# Altium schematic symbol library ESC.SchLib: 73 symbols
Pins are listed as number, name and electrical type; pins without a type are passive.

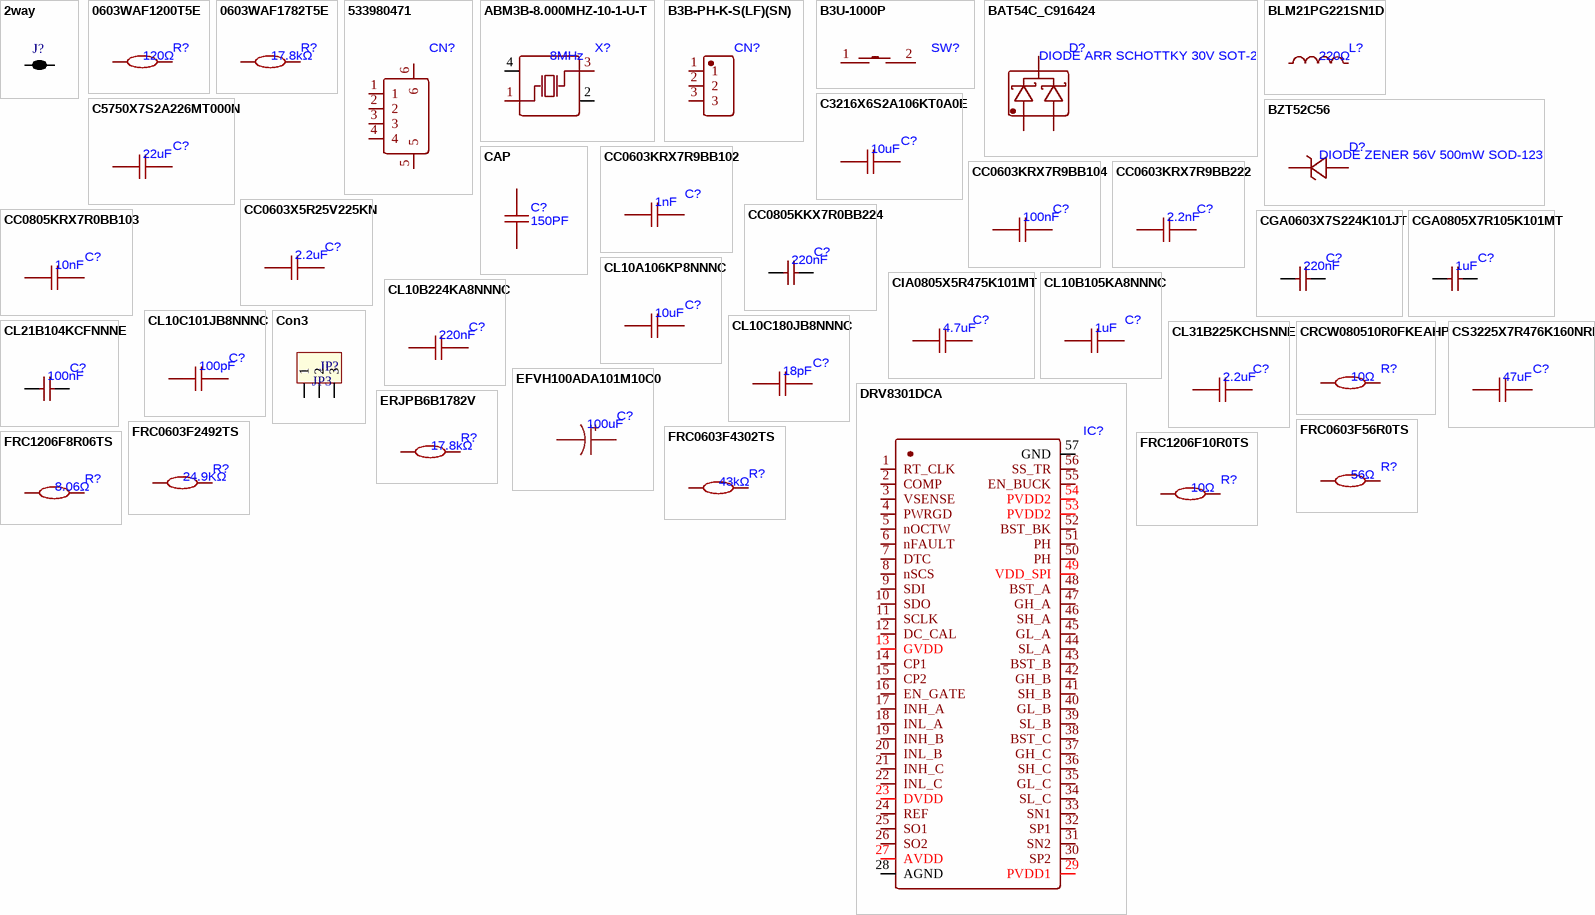
[diagram p0: symbols 2way to FRC1206F10R0TS]

## 2way
designator J?, comment 2 way net tie junction  (value not drawn)  (net tie, no BOM)
ComponentLink1URL: http://www.edatools.cz/addons; ComponentLink1Description: Source; FootprintNote: LP=12mil, MP=40mil, HP=120mil
footprint 2way_LP (2 way low power net tie junction)
footprint 2way_MP (2 way medium power net tie junction)
footprint 2way_HP (2 way high power power net tie junction)
footprint NetTie_2mm (Net tie, 2mm round)
pins: 1, 2

## 0603WAF1200T5E
designator R?, comment 120Ω
120Ω ±1% 100mW 0603 Thick Film Resistor
footprint R0603
pins: 1, 2

## 0603WAF1782T5E
designator R?, comment 17.8kΩ
17.8kΩ ±1% 100mW 0603 Thick Film Resistor
footprint R0603
pins: 1, 2

## 533980471
designator CN?
4P PicoBlade(MX 1.25) 1x4P Tin -40℃~+105℃ White 1.25mm 125V 4 1A 1 Surface Mount,Vertical SMD,P=1.25mm Headers, Male Pins RoHS
footprint CONN-SMD_4P-P1.25_XUNPU_WAFER-GH1.25-4PWB
pins: 1, 2, 3, 4, 5, 6

## ABM3B-8.000MHZ-10-1-U-T
designator X?, comment 8MHz
Crystal 8MHz ±10ppm 10pF 200Ω SMD5032-4P
footprint OSC-SMD_4P-L5.0-W3.2-BL
pins: 1 OSC1, 2 GND, 3 OSC2, 4 GND

## B3B-PH-K-S(LF)(SN)
designator CN?, comment CONN HEADER TH 3POS 2mm  (value not drawn)
Connector Header 3 position 2mm Pitch 2A Through Hole -25℃~+85℃
footprint CONN-TH_B3B-PH-K-S
pins: 1, 2, 3

## B3U-1000P
designator SW?
12V 2.5mm Round Button 3mm SPST 50mA SMD,3x2.5mm Tactile Switches ROHS
footprint KEY-SMD_B3U-1000PM
pins: 1, 2

## BAT54C_C916424
designator D?, comment DIODE ARR SCHOTTKY 30V SOT-23
600mA 30V 1 Pair Common Cathode 1V@100mA 200mA SOT-23 Single Diodes RoHS
footprint SOT-23-3_L2.9-W1.3-P1.90-LS2.4-BR
pins: 1, 2, 3

## BLM21PG221SN1D
designator L?, comment 220Ω
220Ω@100MHz 1 Line Ferrite Bead 0805 2A 45mΩ
footprint C0805
pins: 1, 2

## BZT52C56
designator D?, comment DIODE ZENER 56V 500mW SOD-123W
Zener Diode Independent 56V 500mW Surface Mount SOD-123W
footprint SOD-123_L2.8-W1.8-LS3.7-RD
pins: 1 K, 2 A

## C3216X6S2A106KT0A0E
designator C?, comment 10uF
10uF X6S ±10% 100V 1206 Ceramic Capacitors RoHS
footprint C2220
footprint C1206 (1206)
pins: 1, 2

## C5750X7S2A226MT000N
designator C?, comment 22uF
22uF ±20% 100V Ceramic Capacitor X7S 2220
footprint C2220
pins: 1, 2

## CAP
designator C?, comment 150PF
50V 150pF NP0 ±5% 0603 Ceramic Capacitors ROHS
footprint C0603
pins: 1, 2

## CC0603KRX7R9BB102
designator C?, comment 1nF
1nF ±10% 50V Ceramic Capacitor X7R 0603
footprint C0603 (cap 0603)
pins: 1, 2

## CC0603KRX7R9BB104
designator C?, comment 100nF
100nF ±10% 50V Ceramic Capacitor X7R 0603
footprint C0603 (cap 0603)
pins: 1, 2

## CC0603KRX7R9BB222
designator C?, comment 2.2nF
2.2nF ±10% 50V Ceramic Capacitor X7R 0603
footprint C0603 (cap 0603)
pins: 1, 2

## CC0603X5R25V225KN
designator C?, comment 2.2uF
2.2uF X5R ±10% 25V 0603 Ceramic Capacitors RoHS
footprint C0603 (cap 0603)
pins: 1, 2

## CC0805KKX7R0BB224
designator C?, comment 220nF
220nF ±10% 100V Ceramic Capacitor X7R 0805
footprint C0805
pins: 1, 2

## CC0805KRX7R0BB103
designator C?, comment 10nF
10nF ±10% 100V Ceramic Capacitor X7R 0805
footprint C0805
pins: 1, 2

## CGA0603X7S224K101JT
designator C?, comment 220nF
220nF ±10% 100V Ceramic Capacitor X7S 0603
footprint C0603 (cap 0603)
pins: 1, 2

## CGA0805X7R105K101MT
designator C?, comment 1uF
1uF ±10% 100V Ceramic Capacitor X7R 0805
footprint C0805
pins: 1, 2

## CIA0805X5R475K101MT
designator C?, comment 4.7uF
4.7uF ±10% 100V Ceramic Capacitor X5R 0805
footprint C0805
pins: 1, 2

## CL10A106KP8NNNC
designator C?, comment 10uF
10uF ±10% 10V Ceramic Capacitor X5R 0603
footprint C0603 (cap 0603)
pins: 1, 2

## CL10B105KA8NNNC
designator C?, comment 1uF
1uF ±10% 25V Ceramic Capacitor X7R 0603
footprint C0603 (cap 0603)
pins: 1, 2

## CL10B224KA8NNNC
designator C?, comment 220nF
220nF ±10% 25V Ceramic Capacitor X7R 0603
footprint C0603 (cap 0603)
pins: 1, 2

## CL10C101JB8NNNC
designator C?, comment 100pF
100pF ±5% 50V Ceramic Capacitor C0G 0603
footprint C0603 (cap 0603)
pins: 1, 2

## CL10C180JB8NNNC
designator C?, comment 18pF
18pF ±5% 50V Ceramic Capacitor C0G 0603
footprint C0603 (cap 0603)
pins: 1, 2

## CL21B104KCFNNNE
designator C?, comment 100nF
100nF ±10% 100V Ceramic Capacitor X7R 0805
footprint C0805
pins: 1, 2

## CL31B225KCHSNNE
designator C?, comment 2.2uF
2.2uF ±10% 100V Ceramic Capacitor X7R 1206
footprint C2220
footprint C1206 (1206)
pins: 1, 2

## Con3
designator JP?, comment JP3
Connector 3; Value: Connector 3
footprint CON3 (CON 3)
pins: 1, 2, 3

## CRCW080510R0FKEAHP
designator R?, comment 10Ω
10Ω 500mW Thick Film Resistor ±100ppm/℃ ±1% 0805 Chip Resistor - Surface Mount RoHS
footprint R0603
footprint R1206 (package 1206)
footprint R0805 (0805)
pins: 1, 2

## CS3225X7R476K160NRL
designator C?, comment 47uF
47uF ±10% 16V Ceramic Capacitor X7R 1210
footprint C1210 (1210)
pins: 1, 2

## DRV8301DCA
designator IC?, comment DRV8301 Three-Phase Gate Driver With Dual Current Shunt Amplifiers and Buck Regulator  (value not drawn)
MOSFET 1.7A 2.3A HTSSOP-56-EP-6mm Motor Drivers, Controllers RoHS
footprint HTSSOP-56_L14.0-W6.0-P0.50-LS8.1-BL-EP
pins: 1 RT_CLK, 2 COMP, 3 VSENSE, 4 PWRGD, 5 nOCTW, 6 nFAULT, 7 DTC, 8 nSCS, 9 SDI, 10 SDO, 11 SCLK, 12 DC_CAL, 13 GVDD, 14 CP1, 15 CP2, 16 EN_GATE, 17 INH_A, 18 INL_A, 19 INH_B, 20 INL_B, 21 INH_C, 22 INL_C, 23 DVDD, 24 REF, 25 SO1, 26 SO2, 27 AVDD, 28 AGND, 29 PVDD1, 30 SP2, 31 SN2, 32 SP1, 33 SN1, 34 SL_C, 35 GL_C, 36 SH_C, 37 GH_C, 38 BST_C, 39 SL_B, 40 GL_B, 41 SH_B, 42 GH_B, 43 BST_B, 44 SL_A, 45 GL_A, 46 SH_A, 47 GH_A, 48 BST_A, 49 VDD_SPI, 50 PH, 51 PH, 52 BST_BK, 53 PVDD2, 54 PVDD2, 55 EN_BUCK, 56 SS_TR, 57 GND

## EFVH100ADA101M10C0
designator C?, comment 100uF
100uF ±20% 100V Aluminum Electrolytic Capacitors
footprint CAP-SMD_BD10.0-L10.3-W10.3-FD (SMD,D10xL12.5mm)
pins: 1, 2

## ERJPB6B1782V
designator R?, comment 17.8kΩ
250mW 17.8kΩ Thick Film Resistor ±50ppm/℃ ±0.1% 0805 Chip Resistor - Surface Mount RoHS
footprint R0603
footprint R0805 (0805)
pins: 1, 2

## FRC0603F56R0TS
designator R?, comment 56Ω
56Ω ±1% 100mW 0603 Thick Film Resistor
footprint R0603
pins: 1, 2

## FRC0603F2492TS
designator R?, comment 24.9KΩ
24.9kΩ ±1% 100mW 0603 Thick Film Resistor
footprint R0603
pins: 1, 2

## FRC0603F4302TS
designator R?, comment 43kΩ
43kΩ ±1% 100mW 0603 Thick Film Resistor
footprint R0603
pins: 1, 2

## FRC1206F8R06TS
designator R?, comment 8.06Ω
8.06Ω ±1% 250mW 1206 Thick Film Resistor
footprint R0603
footprint R1206 (package 1206)
pins: 1, 2

## FRC1206F10R0TS
designator R?, comment 10Ω
10Ω ±1% 250mW 1206 Thick Film Resistor
footprint R0603
footprint R1206 (package 1206)
pins: 1, 2

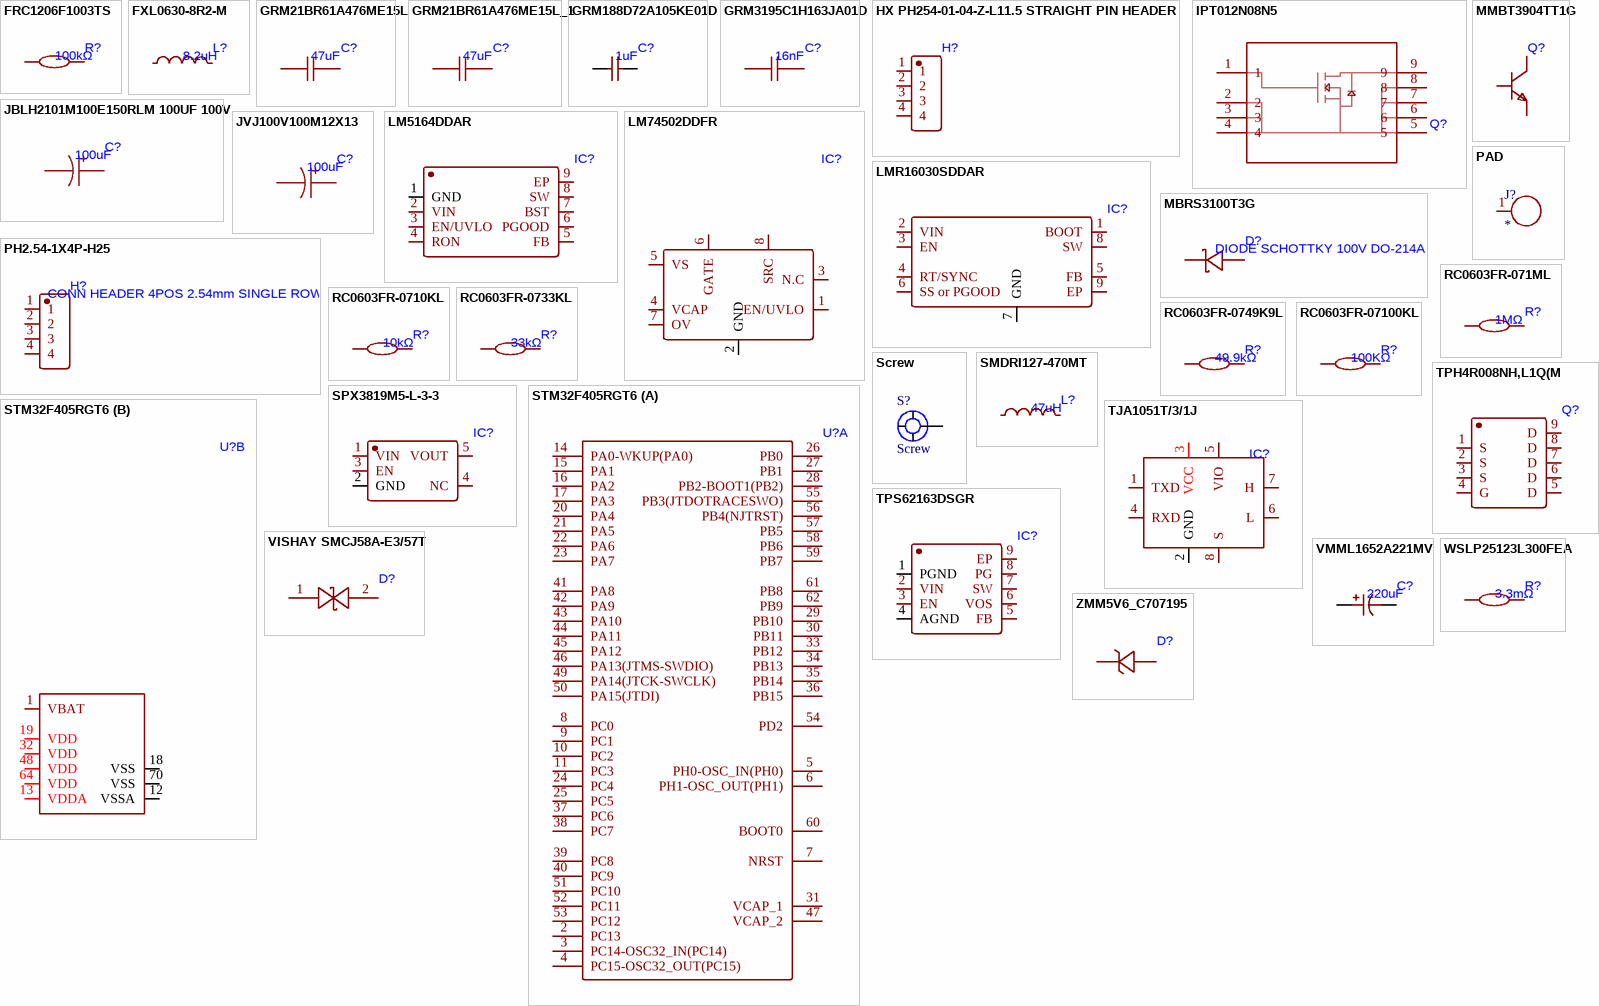
[diagram p1: symbols FRC1206F1003TS to ZMM5V6_C707195]

## FRC1206F1003TS
designator R?, comment 100kΩ
100kΩ ±1% 250mW 1206 Thick Film Resistor
footprint R0603
footprint R1206 (package 1206)
pins: 1, 2

## FXL0630-8R2-M
designator L?, comment 8.2uH
5A 8.2uH 6A 60mΩ Molded Inductor ±20% SMD,7x6.6mm Fixed Inductors RoHS
footprint IND-SMD_L7.0-W6.6_FXL0630 (SMD,7x6.6mm)
pins: 1, 2

## GRM21BR61A476ME15L
designator C?, comment 47uF
47uF ±20% 10V Ceramic Capacitor X5R 0805
footprint C0805
pins: 1, 2

## GRM21BR61A476ME15L_1
designator C?, comment 47uF
47uF ±20% 10V Ceramic Capacitor X5R 0805
footprint C0603 (cap 0603)
pins: 1, 2

## GRM188D72A105KE01D
designator C?, comment 1uF
1uF ±10% 100V Ceramic Capacitor X7T 0603
footprint C0603 (cap 0603)
pins: 1, 2

## GRM3195C1H163JA01D
designator C?, comment 16nF
16nF ±5% 50V Ceramic Capacitor C0G 1206
footprint C2220
footprint C1206 (1206)
pins: 1, 2

## HX PH254-01-04-Z-L11.5 STRAIGHT PIN HEADER
designator H?, comment 4PIN  (value not drawn)
Pin Header 1 2.5mm 6mm -40℃~+105℃ 3mm 4P 2.54mm 3A 1kV 1x4P Through Hole,P=2.54mm Headers, Male Pins RoHS
footprint HDR-TH_4P-HX-PH254-01-04-Z-L11.5
pins: 1, 2, 3, 4

## IPT012N08N5
designator Q?, comment MOSFET N-CH 80V HSOF-8  (value not drawn)
N-Channel 80V 375W HSOF-8
footprint TOLL-8_L10.4-W9.9-P1.20-LS11.7-BL_2
pins: 1, 2, 3, 4, 5, 6, 7, 8, 9

## JBLH2101M100E150RLM 100UF 100V
designator C?, comment 100uF
100uF ±20% 100V Through Hole,D10xL15mm 2000hrs@105℃
footprint CAP-TH_BD10.0-P5.00-D0.6-FD (Through Hole,D10xL15mm)
pins: 1, 2

## JVJ100V100M12X13
designator C?, comment 100uF
100uF ±20% 100V Aluminum Electrolytic Capacitors 2000hrs@105℃
footprint CAP-SMD_L3.5-W2.8-R-RD
footprint CAP-SMD_BD12.5-L13.0-W13.0-LS13.7-FD (SMD,D12.5xL13.5mm)
pins: 1, 2

## LM5164DDAR
designator IC?, comment 100-V Input, 1-A Synchronous Buck DC/DC Converter  (value not drawn)
1MHz Buck Adjustable 1A SO-8-EP Voltage Regulators - DC DC Switching Regulators RoHS
footprint SO-8_L4.9-W3.9-P1.27-LS6.0-BL-EP
pins: 1 GND, 2 VIN, 3 EN/UVLO, 4 RON, 5 FB, 6 PGOOD, 7 BST, 8 SW, 9 EP

## LM74502DDFR
designator IC?, comment TSOT-23-8 OR Controllers, Ideal Diodes RoHS  (value not drawn)
Low-IQ high-side switch controller with reverse polarity protection and overvoltage protection functions
footprint SOT-23-8_L2.9-W1.6-P0.65-LS2.8-BL
pins: 1 EN/UVLO, 2 GND, 3 N.C, 4 VCAP, 5 VS, 6 GATE, 7 OV, 8 SRC

## LMR16030SDDAR
designator IC?, comment 60V 3A Step-Down Converter  (value not drawn)
2.5MHz Buck Adjustable 800mV~50V 3A 4.3V~60V SO-8-EP Voltage Regulators - DC DC Switching Regulators RoHS
footprint SOIC-8_L4.9-W3.9-P1.27-LS6.0-BL-EP2.3
pins: 1 BOOT, 2 VIN, 3 EN, 4 RT/SYNC, 5 FB, 6 SS or PGOOD, 7 GND, 8 SW, 9 EP

## MBRS3100T3G
designator D?, comment DIODE SCHOTTKY 100V DO-214AB
Diode 100V 3A Surface Mount DO-214AB
footprint SMC_L7.1-W6.2-LS8.1-RD
pins: 1 C, 2 A

## MMBT3904TT1G
designator Q?, comment TRANS NPN 40V 200mA SOT-416  (value not drawn)
Bipolar (BJT) Transistor NPN 40V 200mA 300MHz 200mW Surface Mount SOT-416
footprint SC-75-3_L1.6-W0.8-P1.00-LS1.6-BR
pins: 1 B, 2 E, 3 C

## PAD
designator J?
pins: 1

## PH2.54-1X4P-H25
designator H?, comment CONN HEADER 4POS 2.54mm SINGLE ROW TH
Pin Header 4 Position 2.54mm Pitch Single Row Through Hole -40℃~+105℃
footprint HDR-TH_4P-P2.54-V-M
pins: 1, 2, 3, 4

## RC0603FR-071ML
designator R?, comment 1MΩ
100mW 1MΩ 75V Thick Film Resistor ±100ppm/℃ ±1% 0603 Chip Resistor - Surface Mount RoHS
footprint R0603
pins: 1, 2

## RC0603FR-0710KL
designator R?, comment 10kΩ
100mW 10kΩ 75V ±100ppm/℃ Thick Film Resistor ±1% 0603 Chip Resistor - Surface Mount ROHS
footprint R0603
pins: 1, 2

## RC0603FR-0733KL
designator R?, comment 33kΩ
100mW 33kΩ 75V Thick Film Resistor ±100ppm/℃ ±1% 0603 Chip Resistor - Surface Mount RoHS
footprint R0603
pins: 1, 2

## RC0603FR-0749K9L
designator R?, comment 49.9kΩ
100mW 49.9kΩ 75V Thick Film Resistor ±100ppm/℃ ±1% 0603 Chip Resistor - Surface Mount RoHS
footprint R0603
pins: 1, 2

## RC0603FR-07100KL
designator R?, comment 100KΩ
100mW 100kΩ 75V Thick Film Resistor ±100ppm/℃ ±1% 0603 Chip Resistor - Surface Mount RoHS
footprint R0603
pins: 1, 2

## Screw
designator S?
footprint Screw Hole 4mm
pins: 1

## SMDRI127-470MT
designator L?, comment 47uH
2.5A 47uH 4.6A 100mΩ Magnetic Shielded Inductor ±20% SMD,12.3x12.3mm Fixed Inductors RoHS
footprint IND-SMD_L12.3-W12.3
pins: 1, 2

## SPX3819M5-L-3-3
designator IC?, comment 500mA Low-Noise LDo Voltage Regulator  (value not drawn)
3.3V 16V Positive Fixed SOT-23-5 Voltage Regulators - Linear, Low Drop Out (LDO) Regulators RoHS
footprint SOT-23-5_L3.0-W1.6-P0.95-LS2.8-BR
pins: 1 VIN, 2 GND, 3 EN, 4 NC, 5 VOUT

## STM32F405RGT6
designator U?, comment ARM Cortex-M4 32b MCU+FPU, 210DMIPS, up to 1MB Flash/192+4KB RAM, USB OTG HS/FS, Ethernet, 17 TIMs, 3 ADCs, 15 comm. interfaces & camera  (value not drawn)
ARM Cortex-M4 32 Bit 168MHz 51 LQFP-64(10x10) Microcontrollers RoHS
footprint LQFP-64_L10.0-W10.0-P0.50-LS12.0-BL
part A pins: 2 PC13, 3 PC14-OSC32_IN(PC14), 4 PC15-OSC32_OUT(PC15), 5 PH0-OSC_IN(PH0), 6 PH1-OSC_OUT(PH1), 7 NRST, 8 PC0, 9 PC1, 10 PC2, 11 PC3, 14 PA0-WKUP(PA0), 15 PA1, 16 PA2, 17 PA3, 20 PA4, 21 PA5, 22 PA6, 23 PA7, 24 PC4, 25 PC5, 26 PB0, 27 PB1, 28 PB2-BOOT1(PB2), 29 PB10, 30 PB11, 31 VCAP_1, 33 PB12, 34 PB13, 35 PB14, 36 PB15, 37 PC6, 38 PC7, 39 PC8, 40 PC9, 41 PA8, 42 PA9, 43 PA10, 44 PA11, 45 PA12, 46 PA13(JTMS-SWDIO), 47 VCAP_2, 49 PA14(JTCK-SWCLK), 50 PA15(JTDI), 51 PC10, 52 PC11, 53 PC12, 54 PD2, 55 PB3(JTDOTRACESWO), 56 PB4(NJTRST), 57 PB5, 58 PB6, 59 PB7, 60 BOOT0, 61 PB8, 62 PB9
part B pins: 1 VBAT, 12 VSSA, 13 VDDA, 18 VSS, 19 VDD, 32 VDD, 48 VDD, 64 VDD, 70 VSS

## TJA1051T/3/1J
designator IC?, comment High-speed CAN transceiver  (value not drawn)
4.5V~5.5V CAN FD Transceiver SOIC-8-150mil Drivers, Receivers, Transceivers RoHS
footprint SOIC-8_L4.9-W3.9-P1.27-LS6.0-BL
pins: 1 TXD, 2 GND, 3 VCC, 4 RXD, 5 VIO, 6 L, 7 H, 8 S

## TPH4R008NH,L1Q(M
designator Q?, comment MOSFET N-CH 80V 100A SOP-8-Advance  (value not drawn)
N-Channel 80V 100A 78W SOP-8-Advance
footprint SOP-8_L5.0-W5.0-P1.27-LS6.0_TPH4R008NH-L1Q
pins: 1 S, 2 S, 3 S, 4 G, 5 D, 6 D, 7 D, 8 D, 9 D

## TPS62163DSGR
designator IC?, comment TPS62162DSGR Synchronous Buck DC-DC Converter  (value not drawn)
2.25MHz Buck Fixed 3.3V 1A WSON-8-EP(2x2) Voltage Regulators - DC DC Switching Regulators RoHS
footprint WSON-8_L2.0-W2.0-P0.50-TL-EP
pins: 1 PGND, 2 VIN, 3 EN, 4 AGND, 5 FB, 6 VOS, 7 SW, 8 PG, 9 EP

## VISHAY SMCJ58A-E3/57T
designator D?, comment 93.6V 1.5kW@10/1000us Unidirectional 58V SMC TVS Diodes RoHS  (value not drawn)
footprint SMB_L4.6-W3.6-LS5.3-BI
pins: 1, 2

## VMML1652A221MV
designator C?, comment 220uF
220uF ±20% 100V Aluminum Electrolytic Capacitors
footprint CAP-SMD_BD12.5-L13.5-W13.5-FD-1
pins: 1, 2

## WSLP25123L300FEA
designator R?, comment 3.3mΩ
3.3mΩ 3W Current Sense Resistor ±1% ±150ppm/℃ 2512 Chip Resistor - Surface Mount RoHS
footprint R0603
footprint R2512
pins: 1, 2

## ZMM5V6_C707195
designator D?, comment DIODE ZENER 5.6V 500mW LL-34  (value not drawn)
Zener Diode Independent 5.6V 500mW Surface Mount LL-34
footprint LL-34_L3.5-W1.5-RD
pins: 1 K, 2 A